# Altium footprint library Fuse_Clip.PcbLib: 1 footprints
Each footprint in its own frame and in the unit in brackets; x right, y up, seen from the top. Pads: shape width x height; smd on the part's side, far side on the other; paste and mask are expansions set on the pad; w line width, h text height; cw(c..) or ccw(c..) is an arc to the next point about the centre after c.
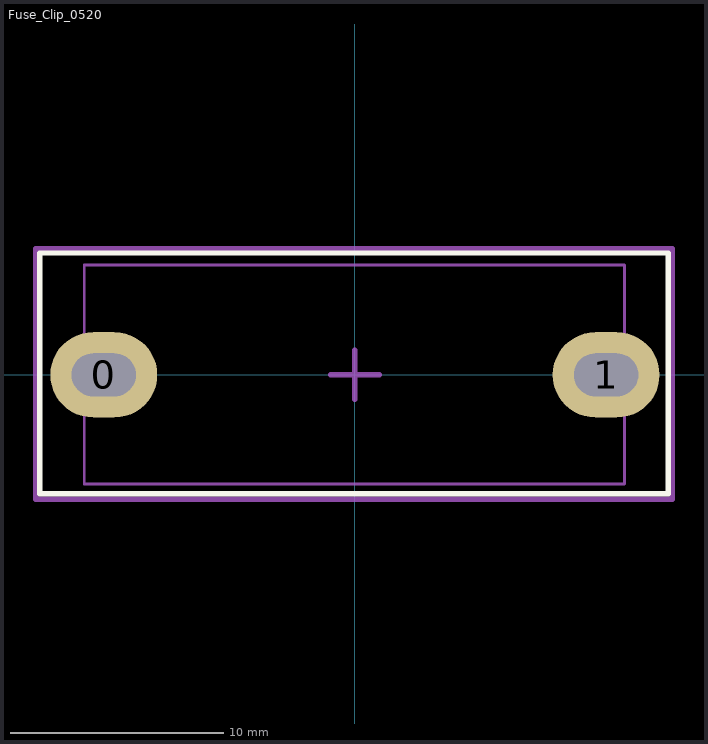
[diagram p0: the footprint, top view; thin cyan lines are the x and y axes]

## Fuse_Clip_0520 [mm] "Clip Fuse, Size 0520"
pads (2):
  oval 5x4 hole 2 slot 3 at 0 deg: 0(-11.75,0) 1(11.75,0)
Top Overlay:
  lines w0.254: -14.75,-5.56 14.65,-5.56 14.65,5.7 -14.75,5.7 -14.75,-5.56
Mechanical 1:
  lines w0.127: -12.67,-5.11 12.61,-5.11 12.61,5.14 -12.67,5.14 -12.67,-5.11
Top Courtyard:
  lines w0.254: -1.143,0 1.143,0 ; 0,-1.143 0,1.143 ; -14.93,-5.81 -14.93,5.89 14.84,5.89 14.84,-5.81 -14.93,-5.81
Top Designator:
  text ".Designator" at -6.018,-0.4 h1.2
3D body "Fuse_holder.stp": height 15.1, standoff -5.11, extent -12.53,-5 12.47,5